# Altium schematic symbol library LT3800.SchLib: 1 symbol
Pins are listed as number, name and electrical type; pins without a type are passive.

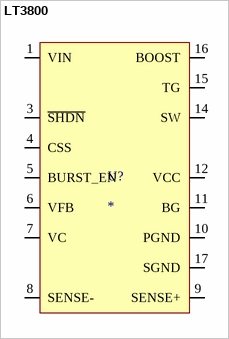
[diagram p0: symbol LT3800]

## LT3800
designator U?
High-Voltage Synchronous Current Mode Step-Down Controller; Manufacturer: Linear Technology; Part No.: LT3800; Price Est.: $3.69; Vendor: Linear Technology
footprint TSSOP-16 EP (Linear Technology FE Package 16-Lead Plastic TSSOP 4.4x5.1 Exposed Pad (BC))
pins: 1 VIN, 3 ~{SHDN}, 4 CSS, 5 BURST_EN, 6 VFB, 7 VC, 8 SENSE-, 9 SENSE+, 10 PGND, 11 BG, 12 VCC, 14 SW, 15 TG, 16 BOOST, 17 SGND